# EAGLE library part FH12-40S-0.5SH_1__98_ (library SamacSys_Parts)
FFC & FPC Connectors 40P SMT HORIZONTAL .5MM PITCH Source: Datasheet <https://datasheet.datasheetarchive.com/originals/distributors/DKDS-30/592426.pdf>
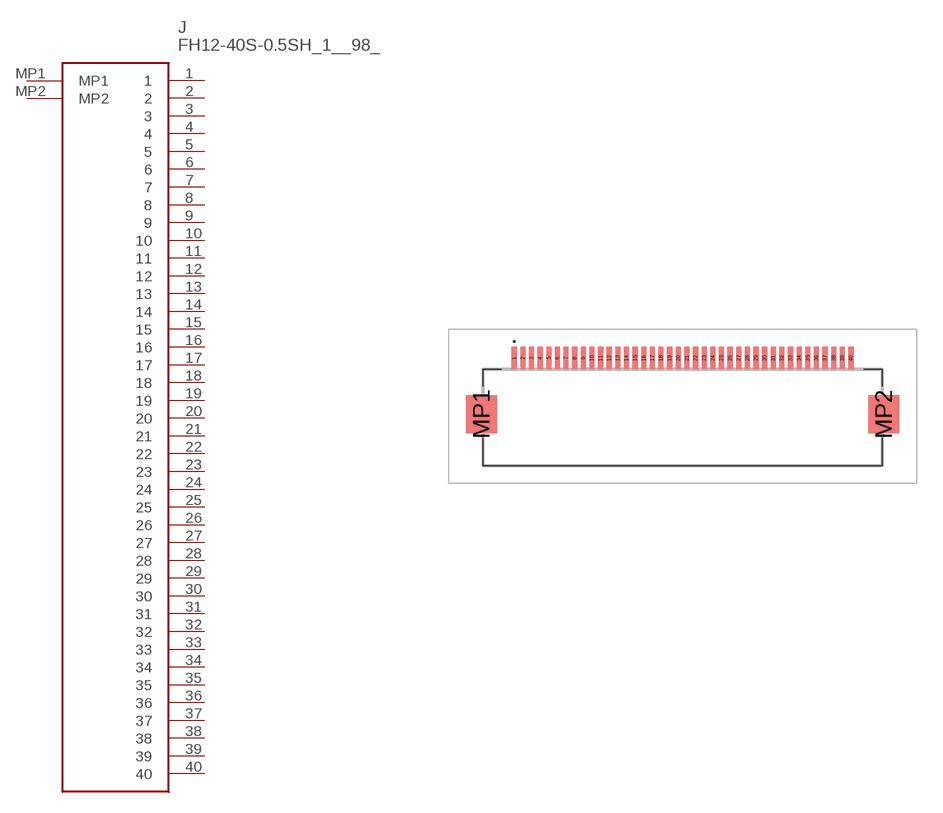
[diagram p192: symbol with the pads of FH1240S05SH198; footprint FH1240S05SH198]

Designator prefix J

## FH12-40S-0.5SH_1__98_ (DESCRIPTION: FFC & FPC Connectors 40P SMT HORIZONTAL .5MM PITCH; HEIGHT: 2.2mm; MANUFACTURER_NAME: Hirose; MANUFACTURER_PART_NUMBER: FH12-40S-0.5SH(1)(98); MOUSER_PART_NUMBER: 798-FH1240S05SH198; MOUSER_PRICE-STOCK: https://www.mouser.co.uk/ProductDetail/Hirose-Connector/FH12-40S-05SH198?qs=tTj%252BmQ3KZwYYfekxHYzvlw%3D%3D)  [FH1240S05SH198]
1  1
2  2
3  3
4  4
5  5
6  6
7  7
8  8
9  9
10  10
11  11
12  12
13  13
14  14
15  15
16  16
17  17
18  18
19  19
20  20
21  21
22  22
23  23
24  24
25  25
26  26
27  27
28  28
29  29
30  30
31  31
32  32
33  33
34  34
35  35
36  36
37  37
38  38
39  39
40  40
MP1  MP1
MP2  MP2

## Footprint FH1240S05SH198 (pad centres in mm)
FH12-40S-0.5SH(1)(98)-3
smd 0.3 x 1.3: 1 -9.75,2.8; 2 -9.25,2.8; 3 -8.75,2.8; 4 -8.25,2.8; 5 -7.75,2.8; 6 -7.25,2.8; 7 -6.75,2.8; 8 -6.25,2.8; 9 -5.75,2.8; 10 -5.25,2.8; 11 -4.75,2.8; 12 -4.25,2.8; 13 -3.75,2.8; 14 -3.25,2.8; 15 -2.75,2.8; 16 -2.25,2.8; 17 -1.75,2.8; 18 -1.25,2.8; 19 -0.75,2.8; 20 -0.25,2.8; 21 0.25,2.8; 22 0.75,2.8; 23 1.25,2.8; 24 1.75,2.8; 25 2.25,2.8; 26 2.75,2.8; 27 3.25,2.8; 28 3.75,2.8; 29 4.25,2.8; 30 4.75,2.8; 31 5.25,2.8; 32 5.75,2.8; 33 6.25,2.8; 34 6.75,2.8; 35 7.25,2.8; 36 7.75,2.8; 37 8.25,2.8; 38 8.75,2.8; 39 9.25,2.8; 40 9.75,2.8
smd 1.8 x 2.2: MP1 -11.65,-0.45; MP2 11.65,-0.45